# Altium footprint library PCB_USB.PcbLib: 1 footprints
Each footprint in its own frame and in the unit in brackets; x right, y up, seen from the top. Pads: shape width x height; smd on the part's side, far side on the other; paste and mask are expansions set on the pad; w line width, h text height; cw(c..) or ccw(c..) is an arc to the next point about the centre after c.
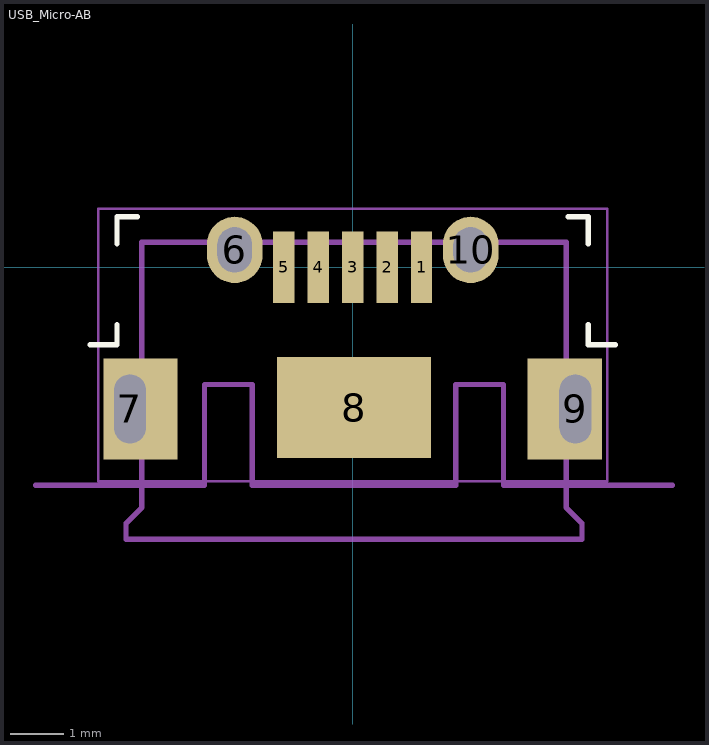
[diagram p0: the footprint, top view; thin cyan lines are the x and y axes]

## USB_Micro-AB [mm]
height 3.9
pads (10):
  rect 0.4x1.35 smd mask+0.15: 1(1.3,0) 2(0.65,0) 3(0,0) 4(-0.65,0) 5(-1.3,0)
  oval 1.05x1.25 hole 0.65 slot 0.85 at 90 deg: 6(-2.225,0.325) 10(2.225,0.325)
  rect 1.4x1.9 hole 0.6 slot 1.3 at 90 deg copper offset 0.2,0: 7(-4.2,-2.675)
  rect 2.9x1.9 smd: 8(0.025,-2.65)
  rect 1.4x1.9 hole 0.6 slot 1.3 at 90 deg copper offset -0.2,0: 9(4.2,-2.675)
Top Overlay:
  lines w0.1: -4.953,-1.465 -4.445,-1.465 -4.445,-1.084 ; -4.445,0.44 -4.445,0.948 -4.064,0.948 ; 4.064,0.948 4.445,0.948 4.445,0.44 ; 4.445,-1.084 4.445,-1.465 4.953,-1.465
Mechanical 1:
  lines w0.1: -5.975,-4.112 -2.795,-4.112 -2.795,-2.213 -1.895,-2.213 -1.895,-4.112 0.025,-4.112 1.945,-4.112 1.945,-2.213 2.845,-2.213 2.845,-4.112 6.025,-4.112
  text "Board edge" at 5.613,-3.979 h0.2
Mechanical 13:
  lines w0.1: -3.975,0.467 4.025,0.467 ; -3.975,0.467 4.025,0.467 ; -3.975,0.467 -3.975,-2.033 -4.547,-2.033 -4.547,-3.09 -3.975,-3.09 -3.975,-4.533 -4.275,-4.832 -4.275,-5.132 4.325,-5.132 4.325,-4.832 4.025,-4.533 4.025,-3.09 4.597,-3.09 4.597,-2.033 4.025,-2.033 4.025,0.467
Mechanical 14:
  lines w0.051: -4.8,-4.039 -4.8,1.1 4.8,1.1 4.8,-4.039 -4.8,-4.039
  text ".Designator" at -2.9,-2.525 h1.27
3D body "475900001.stp": height 2.81, standoff -0.55, extent -4.3,-5.275 4.35,0.625